# Altium footprint library 0900-4-15-20-75-14-11-0-Footprint-1.PcbLib: 1 footprints
Each footprint in its own frame and in the unit in brackets; x right, y up, seen from the top. Pads: shape width x height; smd on the part's side, far side on the other; paste and mask are expansions set on the pad; w line width, h text height; cw(c..) or ccw(c..) is an arc to the next point about the centre after c.
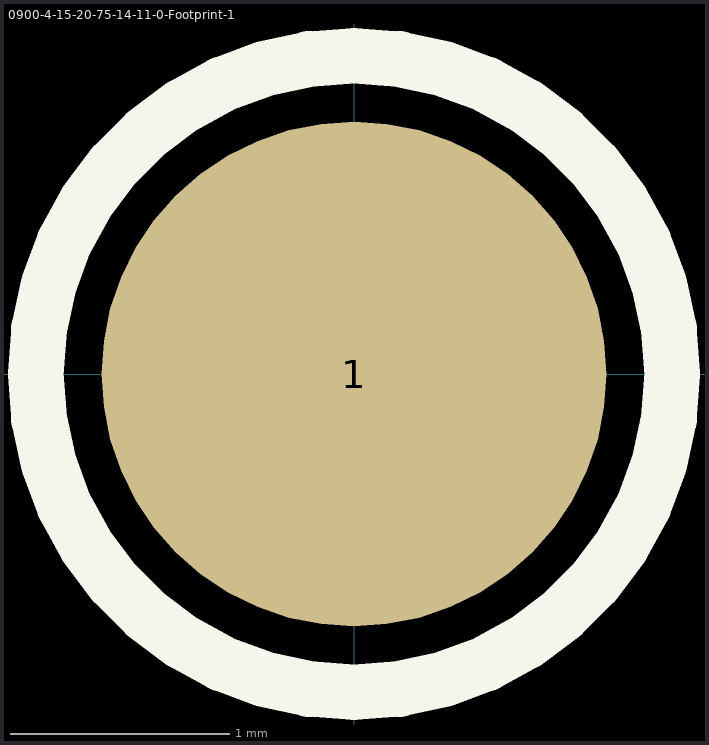
[diagram p0: the footprint, top view; thin cyan lines are the x and y axes]

## 0900-4-15-20-75-14-11-0-Footprint-1 [mm]
pads (1):
  round 2.3 smd: 1(0,0)
Top Overlay:
  circle w0.254: c0,0 r1.45
3D body "mill-max-0900-4-15-20-75-14-11-0.step": height 5.99, standoff 0, extent -0.914,-0.914 0.915,0.915